# Altium footprint library PcbLib1.PcbLib: 1 footprints
Each footprint in its own frame and in the unit in brackets; x right, y up, seen from the top. Pads: shape width x height; smd on the part's side, far side on the other; paste and mask are expansions set on the pad; w line width, h text height; cw(c..) or ccw(c..) is an arc to the next point about the centre after c.
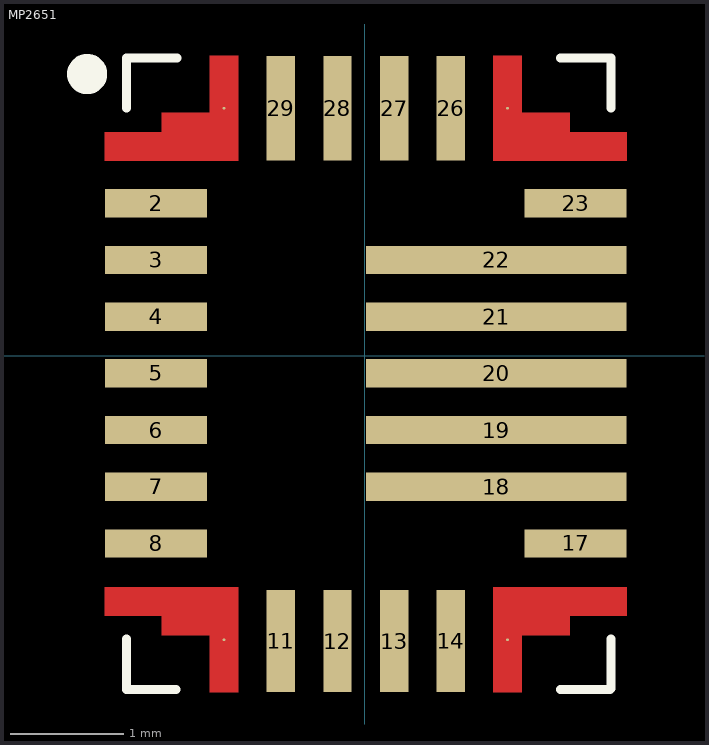
[diagram p0: the footprint, top view; thin cyan lines are the x and y axes]

## MP2651 [mm] "MP2651 – BUCK-BOOST CHARGER FOR 1 TO 4 CELLS IN SERIES"
height 0.9
pads (26):
  round 0.025 smd: 1(-1.24,2.184) 9(-1.24,-2.504) 15(1.26,-2.504) 24(1.26,2.183)
  rect 0.9x0.25 smd: 2(-1.84,1.345) 3(-1.84,0.845) 4(-1.84,0.345) 5(-1.84,-0.155) 6(-1.84,-0.655) 7(-1.84,-1.155) 8(-1.84,-1.655) 17(1.86,-1.655) 23(1.86,1.345)
  rect 0.25x0.9 smd: 11(-0.74,-2.517) 12(-0.24,-2.517) 13(0.26,-2.517) 14(0.76,-2.517)
  rect 2.3x0.25 smd: 18(1.16,-1.155) 19(1.16,-0.655) 20(1.16,-0.155) 21(1.16,0.345) 22(1.16,0.845)
  rect 0.25x0.925 smd: 26(0.76,2.183) 27(0.26,2.183) 28(-0.24,2.183) 29(-0.74,2.183)
Top Layer:
  region: 1.135,1.721 1.135,2.646 1.385,2.646 1.385,2.146 1.81,2.146 1.81,1.971 2.31,1.971 2.31,1.721
  region: -2.29,1.721 -2.29,1.971 -1.79,1.971 -1.79,2.146 -1.365,2.146 -1.365,2.646 -1.115,2.646 -1.115,1.721
  region: 2.31,-2.042 2.31,-2.292 1.81,-2.292 1.81,-2.467 1.385,-2.467 1.385,-2.967 1.135,-2.967 1.135,-2.042
  region: -1.115,-2.042 -1.115,-2.967 -1.365,-2.967 -1.365,-2.467 -1.79,-2.467 -1.79,-2.292 -2.29,-2.292 -2.29,-2.042
Top Overlay:
  lines w0.08: -2.1,-2.942 -1.662,-2.942 ; -2.1,-2.934 -2.1,-2.496 ; -2.101,2.187 -2.101,2.625 ; -2.093,2.625 -1.655,2.625 ; 1.727,-2.942 2.165,-2.942 ; 1.727,2.625 2.165,2.625 ; 2.172,-2.935 2.172,-2.497 ; 2.173,2.187 2.173,2.625
  lines w0.254: -2.398,2.486 ccw(c-2.448,2.486) -2.398,2.486